# Altium footprint library FPC_30P_0.5mm.PcbLib: 1 footprints
Each footprint in its own frame and in the unit in brackets; x right, y up, seen from the top. Pads: shape width x height; smd on the part's side, far side on the other; paste and mask are expansions set on the pad; w line width, h text height; cw(c..) or ccw(c..) is an arc to the next point about the centre after c.
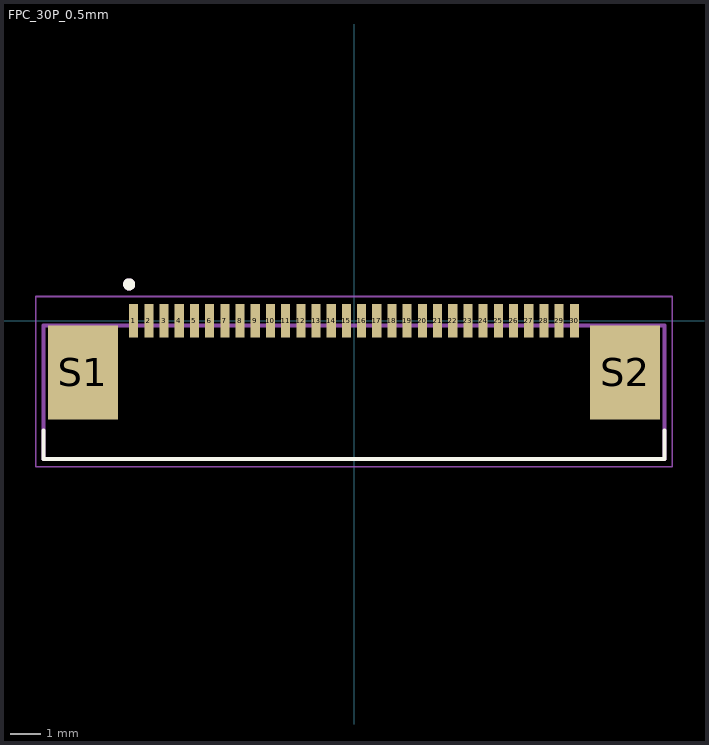
[diagram p0: the footprint, top view; thin cyan lines are the x and y axes]

## FPC_30P_0.5mm [mm]
pads (32):
  rect 0.3x1.1 smd paste+0 mask+0.075: 1(-7.25,0)
  rect 0.3x1.1 smd mask+0.075: 2(-6.75,0) 3(-6.25,0) 4(-5.75,0) 5(-5.25,0) 6(-4.75,0) 7(-4.25,0) 8(-3.75,0) 9(-3.25,0) 10(-2.75,0) 11(-2.25,0) 12(-1.75,0) 13(-1.25,0) 14(-0.75,0) 15(-0.25,0) 16(0.25,0) 17(0.75,0) 18(1.25,0) 19(1.75,0) 20(2.25,0) 21(2.75,0) 22(3.25,0) 23(3.75,0) 24(4.25,0) 25(4.75,0) 26(5.25,0) 27(5.75,0) 28(6.25,0) 29(6.75,0) 30(7.25,0)
  rect 2.3x3.1 smd: S1(-8.92,-1.7) S2(8.92,-1.7)
Top Overlay:
  circle w0.2: c-7.4,1.2 r0.1
  lines w0.127: -10.215,-3.6 -10.215,-4.55 10.215,-4.55 10.215,-3.6
Mechanical 13:
  circle w0.2: c-7.4,1.2 r0.1
  lines w0.127: -10.215,-4.55 -10.215,-0.15 10.215,-0.15 10.215,-4.55 -10.215,-4.55
Mechanical 15:
  lines w0.05: -10.465,-4.8 -10.465,0.8 10.465,0.8 10.465,-4.8 -10.465,-4.8
3D body "3-1734592-0.stp": height 2, standoff -0.05, extent -10.235,-4.808 10.195,0.302